# Altium schematic symbol library SchLib.SchLib: 11 symbols
Pins are listed as number, name and electrical type; pins without a type are passive.

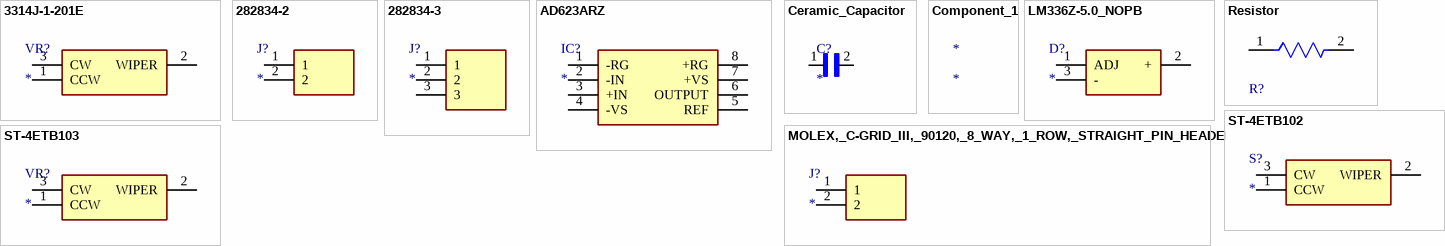
[diagram p0: symbols 3314J-1-201E to ST-4ETB103]

## 3314J-1-201E
designator VR?
Variable Resistor; Manufacturer_Name: Bourns; Manufacturer_Part_Number: 3314J-1-201E; Description: BOURNS - 3314J-1-201E - TRIMMER; Datasheet Link: https://www.bourns.com/docs/Product-Datasheets/3314.pdf; Height: 2.55mm; Mouser Part Number: 652-3314J-1-201E; Mouser Price/Stock: https://www.mouser.com/Search/Refine.aspx?Keyword=652-3314J-1-201E; Arrow Part Number: 3314J-1-201E; Arrow Price/Stock: https://www.arrow.com/en/products/3314j-1-201e/bourns?region=europe
footprint 3314J1201E
pins: 1 CCW, 2 WIPER, 3 CW

## 282834-2
designator J?
Connector; Manufacturer_Name: TE Connectivity; Manufacturer_Part_Number: 282834-2; Datasheet Link: https://www.te.com/commerce/DocumentDelivery/DDEController?Action=srchrtrv&DocNm=1-1773458-1_EURO_STYLE_QRG&DocType=Data+Sheet&DocLang=English&PartCntxt=282834-2&DocFormat=pdf; Mouser Part Number: 571-282834-2; Mouser Price/Stock: https://www.mouser.co.uk/ProductDetail/TE-Connectivity/282834-2?qs=A%252Bip%252BNCYi6N8cVKuk8xDog%3D%3D; Arrow Part Number: 282834-2; Arrow Price/Stock: https://www.arrow.com/en/products/282834-2/te-connectivity?region=europe
footprint 282834-2_1
pins: 1, 2

## 282834-3
designator J?
Connector; Manufacturer_Name: TE Connectivity; Manufacturer_Part_Number: 282834-3; Datasheet Link: https://www.te.com/commerce/DocumentDelivery/DDEController?Action=showdoc&DocId=Customer+Drawing%7F282834%7FC1%7Fpdf%7FEnglish%7FENG_CD_282834_C1.pdf%7F282834-3; Height: 10mm; Mouser Part Number: 571-2828343; Mouser Price/Stock: https://www.mouser.co.uk/ProductDetail/TE-Connectivity/282834-3?qs=A%252Bip%252BNCYi6M69kAjqV38yA%3D%3D; Arrow Part Number: 282834-3; Arrow Price/Stock: https://www.arrow.com/en/products/282834-3/te-connectivity?region=europe
footprint 2828343
pins: 1, 2, 3

## AD623ARZ
designator IC?
Integrated Circuit; Manufacturer_Name: Analog Devices; Manufacturer_Part_Number: AD623ARZ; Description: Analog Devices,AD623ARZ AD623ARZ; Datasheet Link: http://uk.rs-online.com/web/p/products/8065522; Height: 1.75mm; Mouser Part Number: 584-AD623ARZ; Mouser Price/Stock: https://www.mouser.co.uk/ProductDetail/Analog-Devices/AD623ARZ?qs=NmRFExCfTkGK6FtzXpd45Q%3D%3D; Arrow Part Number: AD623ARZ; Arrow Price/Stock: https://www.arrow.com/en/products/ad623arz/analog-devices?region=nac
footprint SOIC127P600X175-8N
pins: 1 -RG, 2 -IN, 3 +IN, 4 -VS, 5 REF, 6 OUTPUT, 7 +VS, 8 +RG

## Ceramic_Capacitor
designator C?
Cap Ceramic 0.01uF 50V X7R 10% SMD 1.0 x 0.5 mm 125 C T/R; MP: 04025C103KAT2A; Package: None; Price: None; Value: *; Availability: Unavailable
footprint 0603
pins: 1, 2

## Component_1
designator *

## LM336Z-5.0_NOPB
designator D?
Diode; Manufacturer_Name: Texas Instruments; Manufacturer_Part_Number: LM336Z-5.0/NOPB; Description: 5.0V Reference Diode; Datasheet Link: https://datasheet.datasheetarchive.com/originals/distributors/Datasheets-SFU2/DSASFU100037156.pdf; Height: 4mm; Mouser Part Number: 926-LM336Z-50/NOPB; Mouser Price/Stock: https://www.mouser.co.uk/ProductDetail/Texas-Instruments/LM336Z-5.0-NOPB?qs=X1J7HmVL2ZHN7YUiEmoZyA%3D%3D; Arrow Part Number: LM336Z-5.0/NOPB; Arrow Price/Stock: https://www.arrow.com/en/products/lm336z-5.0nopb/texas-instruments?region=nac
footprint LM336Z50NOPB
pins: 1 ADJ, 2 +, 3 -

## MOLEX,_C-GRID_III,_90120,_8_WAY,_1_ROW,_STRAIGHT_PIN_HEADER
designator J?
Connector; Description: Molex; Datasheet Link: https://www.molex.com/pdm_docs/sd/901200128_sd.pdf; Height: 9.45mm; Manufacturer_Name: Molex; Manufacturer_Part_Number: MOLEX
footprint HDRV8W65P0X254_1X8_2010X249X945P
pins: 1, 2

## Resistor
designator R?  (value not drawn)
footprint 0603
pins: 1, 2

## ST-4ETB102
designator S?
Switch; Manufacturer_Name: NIDEC COPAL; Manufacturer_Part_Number: ST-4ETB102; Description: Trimmer Resistors - SMD 1 KW 4mm SMD single turn Gull wing; Datasheet Link: https://www.mouser.com/datasheet/2/972/st_4-1827515.pdf; Height: 2.45mm; Mouser Part Number: 229-ST-4ETB102; Mouser Price/Stock: https://www.mouser.co.uk/ProductDetail/Nidec-Copal/ST-4ETB102?qs=XeJtXLiO41QhX9uihnXhqQ%3D%3D
footprint ST4ETB102
pins: 1 CCW, 2 WIPER, 3 CW

## ST-4ETB103
designator VR?
Variable Resistor; Manufacturer_Name: NIDEC COPAL; Manufacturer_Part_Number: ST-4ETB103; Description: 10 kOhms 0.25W; Datasheet Link: https://www.nidec-copal-electronics.com/e/catalog/trimmer/st-4.pdf; Height: 2.6mm; Mouser Part Number: 229-ST-4ETB103; Mouser Price/Stock: https://www.mouser.co.uk/ProductDetail/Nidec-Copal/ST-4ETB103?qs=XeJtXLiO41S8fGnbwPrKRA%3D%3D
footprint ST4ETB103
pins: 1 CCW, 2 WIPER, 3 CW